# EAGLE library part DS3231MZ+ (library DFRobot DS3231M)
Real Time Clock 5+/-ppm RTC Source: Datasheet <http://datasheets.maximintegrated.com/en/ds/DS3231M.pdf>
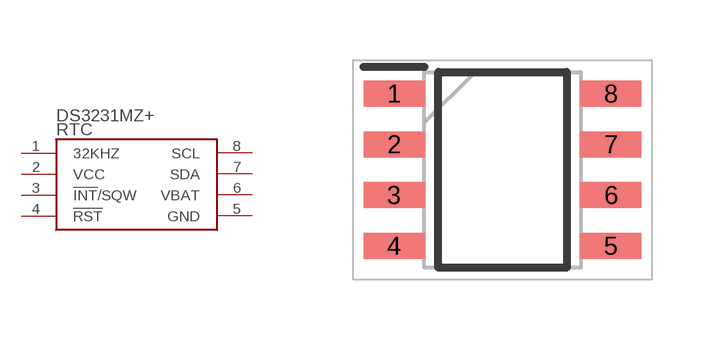
[diagram p1: symbol with the pads of SOIC127P600X175-8N; footprint SOIC127P600X175-8N]

Designator prefix RTC

## DS3231MZ+ (DESCRIPTION: Real Time Clock 5+/-ppm RTC; HEIGHT: 1.75mm; MANUFACTURER_NAME: Analog Devices; MANUFACTURER_PART_NUMBER: DS3231MZ+; MOUSER_PART_NUMBER: 700-DS3231MZ+; MOUSER_PRICE-STOCK: https://www.mouser.co.uk/ProductDetail/Analog-Devices-Maxim-Integrated/DS3231MZ%2b?qs=4Rc5iGDDRGgASPOHxzykqQ%3D%3D)  [SOIC127P600X175-8N]
1  32KHZ  out
2  VCC  pwr
3  !INT!/SQW  out
4  !RST  in
5  GND  pwr
6  VBAT  pwr
7  SDA
8  SCL

## Footprint SOIC127P600X175-8N (pad centres in mm)
smd 1.525 x 0.65: 1 -2.712,1.905; 2 -2.712,0.635; 3 -2.712,-0.635; 4 -2.712,-1.905; 5 2.712,-1.905; 6 2.712,-0.635; 7 2.712,0.635; 8 2.712,1.905